# Altium schematic symbol library 532611571.SchLib: 1 symbol
Pins are listed as number, name and electrical type; pins without a type are passive.

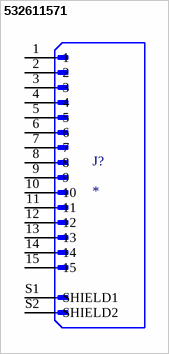
[diagram p0: symbol 532611571]

## 532611571
designator J?
Conn Shrouded Header (4 Sides) HDR 15 POS 1.25mm Solder RA Side Entry SMD PicoBladeâ„¢ T/R; MF: Molex; MP: 532611571; SnapEDA_Link: https://www.snapeda.com/parts/532611571/Molex/view-part/?ref=snap; Package: None; Value: *; Check_prices: https://www.snapeda.com/parts/532611571/Molex/view-part/?ref=eda
footprint MOLEX_532611571
pins: 1, 2, 3, 4, 5, 6, 7, 8, 9, 10, 11, 12, 13, 14, 15, S1 SHIELD1, S2 SHIELD2